# Altium footprint library IC.PcbLib: 11 footprints
Each footprint in its own frame and in the unit in brackets; x right, y up, seen from the top. Pads: shape width x height; smd on the part's side, far side on the other; paste and mask are expansions set on the pad; w line width, h text height; cw(c..) or ccw(c..) is an arc to the next point about the centre after c.
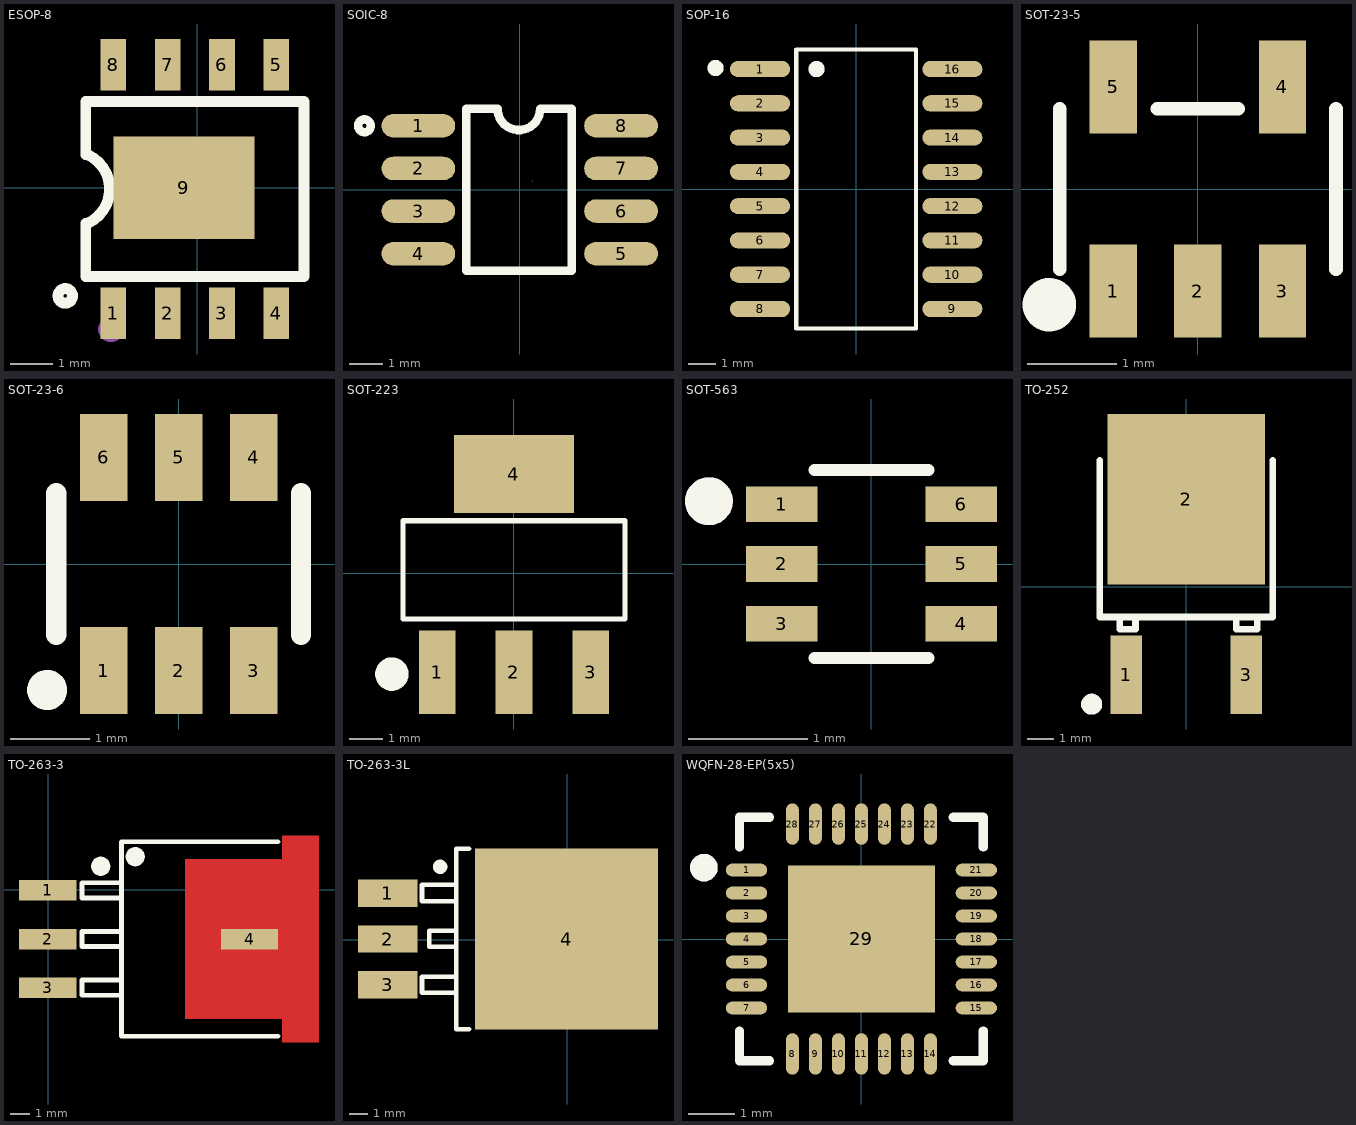
[diagram p0: the footprints below, top view; thin cyan lines are the x and y axes]

## ESOP-8 [mm]
pads (9):
  rect 0.6x1.2 smd paste+0 mask+0.051: 1(-1.956,-2.934) 2(-0.686,-2.934) 3(0.584,-2.934) 4(1.854,-2.934) 5(1.854,2.883) 6(0.584,2.883) 7(-0.686,2.883) 8(-1.956,2.883)
  rect 3.3x2.4 smd paste+0 mask+0.051: 9(-0.305,0)
Top Overlay:
  circle w0.254: c-3.081,-2.526 r0.17
  lines w0.254: -2.601,-0.826 -2.601,-2.075 2.499,-2.075 2.499,2.025 -2.601,2.025 -2.601,0.775 ; -2.551,-0.826 ccw(c-2.926,-0.025) -2.551,0.775
Mechanical 15:
  circle w0.3: c-2.011,-3.305 r0.15
3D body "ESOP-8.step": height 1.82, standoff 0, extent -2.551,-3.1 2.449,3.1

## SOIC-8 [mm]
pads (8):
  oval 2.2x0.7 smd paste+0 mask+0.051: 1(-3.023,1.905) 2(-3.023,0.635) 3(-3.023,-0.635) 4(-3.023,-1.905) 5(3.023,-1.905) 6(3.023,-0.635) 7(3.023,0.635) 8(3.023,1.905)
Top Overlay:
  circle w0.254: c-4.631,1.905 r0.191
  lines w0.254: -1.6,-2.413 -1.6,2.413 -0.66,2.413 ccw(c-0.025,2.413) 0.61,2.413 1.549,2.413 1.549,-2.413 -1.6,-2.413
Mechanical 15:
  lines w0.003: 0.381,0.273 0.381,0.273
3D body "SOIC-8.step": height 1.52, standoff 0, extent -2.95,-2.45 2.95,2.45

## SOP-16 [mm]
pads (16):
  oval 2.231x0.602 smd paste+0 mask+0.051: 1(-3.565,4.445) 2(-3.565,3.175) 3(-3.565,1.905) 4(-3.565,0.635) 5(-3.565,-0.635) 6(-3.565,-1.905) 7(-3.565,-3.175) 8(-3.565,-4.445) 9(3.566,-4.445) 10(3.566,-3.175) 11(3.566,-1.905) 12(3.566,-0.635) 13(3.566,0.635) 14(3.566,1.905) 15(3.566,3.175) 16(3.566,4.445)
Top Overlay:
  circle w0.3: c-5.214,4.485 r0.15
  circle w0.3: c-1.469,4.445 r0.15
  lines w0.152: -2.221,-5.176 -2.221,5.176 2.221,5.176 2.221,-5.176 -2.221,-5.176
Mechanical 15:
  circle w0.3: c-4.3,4.445 r0.15
3D body "CH340C.STEP": height 1.91, standoff 0, extent -3.281,-4.975 3.179,5.025

## SOT-23-5 [mm]
pads (5):
  rect 0.532x1.045 smd paste+0 mask+0.051: 1(-0.95,-1.147) 2(0,-1.147) 3(0.95,-1.147) 4(0.95,1.147) 5(-0.95,1.147)
Top Overlay:
  circle w0.3: c-1.668,-1.3 r0.15
  lines w0.152: -1.551,-0.901 -1.551,0.901 ; -0.455,0.901 0.455,0.901 ; 1.551,-0.901 1.551,0.901
Mechanical 15:
  circle w0.2: c-1.687,-1.316 r0.1
3D body "SOT23_5.stp": height 0.92, standoff 0.01, extent -1.501,-1.602 1.499,1.602

## SOT-23-6 [mm]
pads (6):
  rect 0.6x1.1 smd paste+0 mask+0.051: 1(-0.95,-1.35) 2(0,-1.35) 3(0.95,-1.35) 4(0.95,1.35) 5(0,1.35) 6(-0.95,1.35)
Top Overlay:
  circle w0.254: c-1.666,-1.596 r0.127
  lines w0.254: -1.55,-0.9 -1.55,0.9 ; 1.55,-0.9 1.55,0.9
Mechanical 15:
  circle w0.2: c-0.95,-1.4 r0.1
3D body "SOT-23-6 & pads.STEP": height 1.14, standoff -0.02, extent -1.46,-1.6 1.46,1.6

## SOT-223 [mm]
pads (4):
  rect 1.1x2.5 smd paste+0 mask+0.051: 1(-2.3,-2.97) 2(0,-2.97) 3(2.3,-2.97)
  rect 3.6x2.34 smd paste+0 mask+0.051: 4(0,2.97)
Top Overlay:
  circle w0.5: c-3.658,-3.024 r0.251
  lines w0.152: -3.326,-1.371 3.326,-1.371 3.326,1.571 -3.326,1.571 -3.326,-1.371
3D body "AMS1117 Sot 223.step": height 2, standoff -0.02, extent -3.25,-3.712 3.25,3.66

## SOT-563 [mm]
pads (6):
  rect 0.6x0.3 smd paste+0 mask+0.051: 1(-0.75,0.5) 2(-0.75,0) 3(-0.75,-0.5) 4(0.75,-0.5) 5(0.75,0) 6(0.75,0.5)
Top Overlay:
  circle w0.2: c-1.36,0.525 r0.1
  lines w0.1: -0.475,-0.787 0.475,-0.787 ; -0.475,0.787 0.475,0.787
Mechanical 15:
  circle w0.2: c-1.36,0.525 r0.1
3D body "SOT563.STEP": height 0.55, standoff 0, extent -0.8,-0.787 0.8,0.813

## TO-252 [mm]
pads (3):
  rect 1.2x3 smd paste+0 mask+0.051: 1(-2.285,-3.343) 3(2.285,-3.343)
  rect 6x6.5 smd paste+0 mask+0.051: 2(0,3.343)
Top Overlay:
  lines w0.254: -3.302,4.826 -3.302,-1.143 3.302,-1.143 3.302,4.826 ; -2.54,-1.143 -2.54,-1.611 -1.936,-1.611 -1.936,-1.143 ; 1.905,-1.143 1.905,-1.611 2.706,-1.611 2.706,-1.143
  lines w0.4: -3.407,-4.472 cw(c-3.607,-4.47) -3.407,-4.469
3D body "TO-252-2.stp": height 2.35, standoff 0, extent -3.225,-3.72 3.275,6.26

## TO-263-3 [mm]
pads (4):
  rect 3x1.07 smd paste+0 mask+0.05: 1(-0.025,-0.025) 2(-0.025,-2.565) 3(-0.025,-5.105) 4(10.516,-2.565)
Top Layer:
  region: 7.153,-6.723 7.153,1.597 12.233,1.597 12.233,2.837 14.143,2.837 14.143,-7.963 12.233,-7.963 12.233,-6.723
Top Overlay:
  circle w0.5: c4.545,1.734 r0.25
  circle w0.5: c2.744,1.234 r0.25
  lines w0.254: 3.825,-5.505 1.76,-5.505 1.76,-4.705 3.825,-4.705 ; 3.825,-2.965 1.76,-2.965 1.76,-2.165 3.825,-2.165 ; 3.825,-0.425 1.76,-0.425 1.76,0.375 3.825,0.375 ; 12.003,-7.645 3.825,-7.645 3.825,2.515 12.003,2.515
Top Paste:
  region: 7.155,-6.725 7.155,1.595 12.235,1.595 12.235,2.835 14.145,2.835 14.145,-7.965 12.235,-7.965 12.235,-6.725
Mechanical 15:
  circle w0.5: c-0.798,-0.015 r0.25
3D body "TO263-3-1.stp": height 4.22, standoff 0, extent -0.823,-7.476 13.779,2.345

## TO-263-3L [mil]
pads (4):
  rect 129.92x59.49 smd paste+0 mask+2: 1(-390.91,102) 2(-390.91,2) 3(-390.91,-98)
  rect 398.5x394.49 smd paste+0 mask+2: 4(-1,2)
Top Overlay:
  lines w10: -241.5,-115.3 -316.3,-115.3 -316.3,-79.9 -241.5,-79.9 ; -241.5,-15.3 -300.5,-15.3 -300.5,20.1 -241.5,20.1 ; -241.5,84.7 -316.3,84.7 -316.3,120.1 -241.5,120.1 ; -213.9,-194.9 -241.5,-194.9 -241.5,198.9 -213.9,198.9
  lines w15.7: -276.9,167.4 ccw(c-276.85,159.5) -276.8,167.4
Mechanical 15:
  circle w23.62: c-421,101 r11.81
3D body "User Library-TO263-3.STEP": height 189.3, standoff 0.33, extent -440.46,-191.85 176.47,201.85

## WQFN-28-EP(5x5) [mm]
pads (29):
  oval 0.9x0.28 smd paste+0 mask+0.051: 1(-2.5,1.501) 2(-2.5,1.001) 3(-2.5,0.501) 4(-2.5,0) 5(-2.5,-0.5) 6(-2.5,-1.001) 7(-2.5,-1.501) 15(2.5,-1.501) 16(2.5,-1.001) 17(2.5,-0.5) 18(2.5,0) 19(2.5,0.501) 20(2.5,1.001) 21(2.5,1.501)
  oval 0.28x0.9 smd paste+0 mask+0.051: 8(-1.501,-2.5) 9(-1.001,-2.5) 10(-0.501,-2.5) 11(0,-2.5) 12(0.5,-2.5) 13(1.001,-2.5) 14(1.501,-2.5) 22(1.501,2.5) 23(1.001,2.5) 24(0.5,2.5) 25(0,2.5) 26(-0.501,2.5) 27(-1.001,2.5) 28(-1.501,2.5)
  rect 3.2x3.2 smd paste+0 mask+0.051: 29(0,0)
Top Overlay:
  lines w0.2: -2.65,-2 -2.65,-2.65 -2,-2.65 ; -2.65,2 -2.65,2.65 -2,2.65 ; 2,-2.65 2.65,-2.65 2.65,-2 ; 2,2.65 2.65,2.65 2.65,2
  lines w0.3: -3.277,1.552 cw(c-3.427,1.553) -3.277,1.554
Top Paste:
  region: -1.28,-1.28 1.28,-1.28 1.28,1.28 -1.28,1.28
Mechanical 15:
  circle w0.3: c-3.427,1.553 r0.15
3D body "QFN-28_ALM.step": height 0.92, standoff 0, extent -2.578,-2.578 2.578,2.578